# Altium schematic symbol library SMD Miscellaneous Components.SchLib: 12 symbols
Pins are listed as number, name and electrical type; pins without a type are passive.

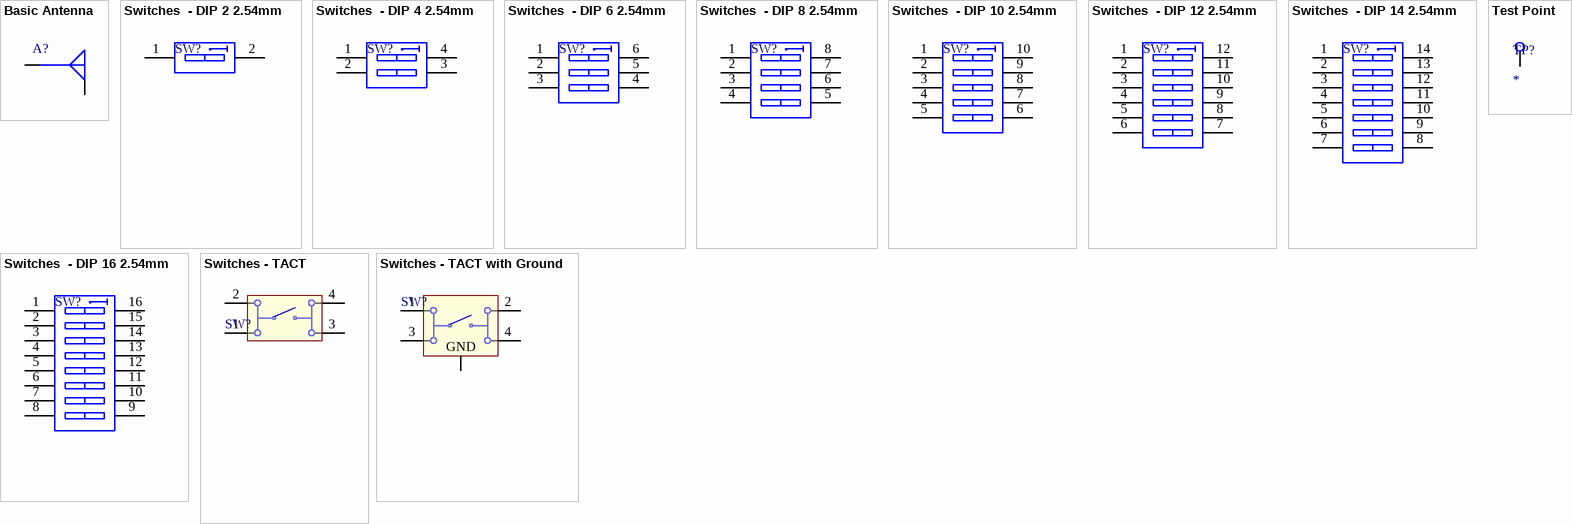
[diagram p0: symbols Basic Antenna to Test Point]

## Basic Antenna
designator A?
footprint ANTENOVA SR42W001
pins: G, S

## Switches  - DIP 2 2.54mm
designator SW?
WS-DITV 2.54 mm small compact THT Dip Switch with raised actuator; PartNumber: 418127270901; NoPins: 2; PackageReference: 418127270901; ComponentLink1Description: Manufacturer URL; ComponentLink1URL: http://www.we-online.com; ComponentLink2Description: Datasheet; ComponentLink2URL: http://katalog.we-online.de/em/datasheet/4181272709xx.pdf
footprint DIP-2 WURTH 418121270801 (01p, 2.54mm Pitch, Horizontal, IC Type, SMT, raised Actuator, black, without Tape, T&R)
pins: 1, 2

## Switches  - DIP 4 2.54mm
designator SW?
WS-DITV 2.54 mm small compact THT Dip Switch with raised actuator; PartNumber: 418127270902; NoPins: 4; PackageReference: 418127270902; ComponentLink1Description: Manufacturer URL; ComponentLink1URL: http://www.we-online.com; ComponentLink2Description: Datasheet; ComponentLink2URL: http://katalog.we-online.de/em/datasheet/4181272709xx.pdf
footprint DIP-4 WURTH 418121270802 (02p, 2.54mm Pitch, Horizontal, IC Type, SMT, raised Actuator, black, without Tape, T&R)
footprint DIP-4 WURTH 418311170802 (02p, 2.54mm Pitch, Piano, Box Type SMT, flat Actuator, black, without Tape, T&R)
pins: 1, 2, 3, 4

## Switches  - DIP 6 2.54mm
designator SW?
WS-DITV 2.54 mm small compact THT Dip Switch with raised actuator; PartNumber: 418127270903; NoPins: 6; PackageReference: 418127270903; ComponentLink1Description: Manufacturer URL; ComponentLink1URL: http://www.we-online.com; ComponentLink2Description: Datasheet; ComponentLink2URL: http://katalog.we-online.de/em/datasheet/4181272709xx.pdf
footprint DIP-6 WURTH 418121270803 (03p, 2.54mm Pitch, Horizontal, IC Type, SMT, raised Actuator, black, without Tape, T&R)
footprint DIP-6 WURTH 418311170803 (03p, 2.54mm Pitch, Piano, Box Type SMT, flat Actuator, black, without Tape, T&R)
pins: 1, 2, 3, 4, 5, 6

## Switches  - DIP 8 2.54mm
designator SW?
WS-DITV 2.54 mm small compact THT Dip Switch with raised actuator; PartNumber: 418127270904; NoPins: 8; PackageReference: 418127270904; ComponentLink1Description: Manufacturer URL; ComponentLink1URL: http://www.we-online.com; ComponentLink2Description: Datasheet; ComponentLink2URL: http://katalog.we-online.de/em/datasheet/4181272709xx.pdf
footprint DIP-8 WURTH 418121270804 (04p, 2.54mm Pitch, Horizontal, IC Type, SMT, raised Actuator, black, without Tape, T&R)
footprint DIP-8 WURTH 418311170804 (04p, 2.54mm Pitch, Piano, Box Type SMT, flat Actuator, black, without Tape, T&R)
pins: 1, 2, 3, 4, 5, 6, 7, 8

## Switches  - DIP 10 2.54mm
designator SW?
WS-DITV 2.54 mm small compact THT Dip Switch with raised actuator; PartNumber: 418127270905; NoPins: 10; PackageReference: 418127270905; ComponentLink1Description: Manufacturer URL; ComponentLink1URL: http://www.we-online.com; ComponentLink2Description: Datasheet; ComponentLink2URL: http://katalog.we-online.de/em/datasheet/4181272709xx.pdf
footprint DIP-10 WURTH 418121270805 (05p, 2.54mm Pitch, Horizontal, IC Type, SMT, raised Actuator, black, without Tape, T&R)
footprint DIP-10 WURTH 418311170805 (05p, 2.54mm Pitch, Piano, Box Type SMT, flat Actuator, black, without Tape, T&R)
pins: 1, 2, 3, 4, 5, 6, 7, 8, 9, 10

## Switches  - DIP 12 2.54mm
designator SW?
WS-DITV 2.54 mm small compact THT Dip Switch with raised actuator; PartNumber: 418127270906; NoPins: 12; PackageReference: 418127270906; ComponentLink1Description: Manufacturer URL; ComponentLink1URL: http://www.we-online.com; ComponentLink2Description: Datasheet; ComponentLink2URL: http://katalog.we-online.de/em/datasheet/4181272709xx.pdf
footprint DIP-12 WURTH 418121270806 (06p, 2.54mm Pitch, Horizontal, IC Type, SMT, raised Actuator, black, without Tape, T&R)
footprint DIP-12 WURTH 418311170806 (06p, 2.54mm Pitch, Piano, Box Type SMT, flat Actuator, black, without Tape, T&R)
pins: 1, 2, 3, 4, 5, 6, 7, 8, 9, 10, 11, 12

## Switches  - DIP 14 2.54mm
designator SW?
WS-DITV 2.54 mm small compact THT Dip Switch with raised actuator; PartNumber: 418127270907; NoPins: 14; PackageReference: 418127270907; ComponentLink1Description: Manufacturer URL; ComponentLink1URL: http://www.we-online.com; ComponentLink2Description: Datasheet; ComponentLink2URL: http://katalog.we-online.de/em/datasheet/4181272709xx.pdf
footprint DIP-14 WURTH 418121270807 (07p, 2.54mm Pitch, Horizontal, IC Type, SMT, raised Actuator, black, without Tape, T&R)
footprint DIP-14 WURTH 418311170807 (07p, 2.54mm Pitch, Piano, Box Type SMT, flat Actuator, black, without Tape, T&R)
pins: 1, 2, 3, 4, 5, 6, 7, 8, 9, 10, 11, 12, 13, 14

## Switches  - DIP 16 2.54mm
designator SW?
WS-DITV 2.54 mm small compact THT Dip Switch with raised actuator; PartNumber: 418127270908; NoPins: 16; PackageReference: 418127270908; ComponentLink1Description: Manufacturer URL; ComponentLink1URL: http://www.we-online.com; ComponentLink2Description: Datasheet; ComponentLink2URL: http://katalog.we-online.de/em/datasheet/4181272709xx.pdf
footprint DIP-16 WURTH 418121270808 (08p, 2.54mm Pitch, Horizontal, IC Type, SMT, raised Actuator, black, without Tape, T&R)
footprint DIP-16 WURTH 418311170808 (08p, 2.54mm Pitch, Piano, Box Type SMT, flat Actuator, black, without Tape, T&R)
pins: 1, 2, 3, 4, 5, 6, 7, 8, 9, 10, 11, 12, 13, 14, 15, 16

## Switches - TACT
designator SW?
Tact Switches; PartNumber: 430481035816; NoPins: 04; PackageReference: 430481035816; ComponentLink1Description: Manufacturer URL; ComponentLink1URL: http://www.we-online.com; ComponentLink2Description: Datasheet; ComponentLink2URL: http://katalog.we-online.de/em/datasheet/4304x1.pdf
footprint SW-6x6 WURTH 430451025836 (6*6mm vertical type, SMD, height 2.5mm, salmon actuator, 360gf, T&R)
footprint SW-6x6 TE 1571625 (6*6mm vertical type, SMD, height 2.5mm, salmon actuator, 360gf, T&R)
pins: 1, 2, 3, 4

## Switches - TACT with Ground
designator SW?
PartNumber: 431151008826; NoPins: 04; PackageReference: 431151008826; ComponentLink1Description: Manufacturer URL; ComponentLink1URL: http://www.we-online.com; ComponentLink2Description: Datasheet; ComponentLink2URL: http://katalog.we-online.de/em/datasheet/431151008826.pdf
footprint SW-5x5 WURTH 431151008826 (5*5mm vertical type, SMD, height 0.8mm, no actuator, 260gf, Grounded Terminal, T&R)
pins: 1, 2, 3, 4, 5, 6
text: GND

## Test Point
designator TP?
footprint TE TP 0805
pins: 1 TP